# Altium footprint library Custom_Library.PcbLib: 2 footprints
Each footprint in its own frame and in the unit in brackets; x right, y up, seen from the top. Pads: shape width x height; smd on the part's side, far side on the other; paste and mask are expansions set on the pad; w line width, h text height; cw(c..) or ccw(c..) is an arc to the next point about the centre after c.
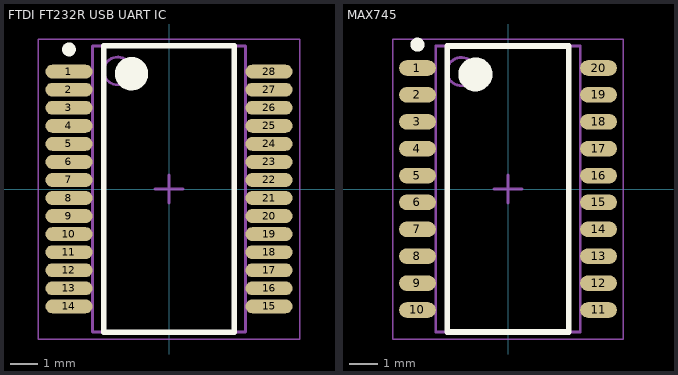
[diagram p0: the footprints below, top view; thin cyan lines are the x and y axes]

## FTDI FT232R USB UART IC [mm] "The FT232R is a USB to serial UART  interface"
height 2
pads (28):
  oval 1.7x0.5 smd: 1(-3.6,4.225) 2(-3.6,3.575) 3(-3.6,2.925) 4(-3.6,2.275) 5(-3.6,1.625) 6(-3.6,0.975) 7(-3.6,0.325) 8(-3.6,-0.325) 9(-3.6,-0.975) 10(-3.6,-1.625) 11(-3.6,-2.275) 12(-3.6,-2.925) 13(-3.6,-3.575) 14(-3.6,-4.225) 15(3.6,-4.225) 16(3.6,-3.575) 17(3.6,-2.925) 18(3.6,-2.275) 19(3.6,-1.625) 20(3.6,-0.975) 21(3.6,-0.325) 22(3.6,0.325) 23(3.6,0.975) 24(3.6,1.625) 25(3.6,2.275) 26(3.6,2.925) 27(3.6,3.575) 28(3.6,4.225)
Top Overlay:
  circle w0.6: c-1.35,4.15 r0.3
  circle w0.25: c-3.6,5.025 r0.125
  lines w0.2: -2.35,-5.15 2.35,-5.15 2.35,5.15 -2.35,5.15 -2.35,-5.15
Mechanical 13:
  circle w0.1: c-1.85,4.25 r0.5
  lines w0.1: -2.75,-5.15 2.75,-5.15 2.75,5.15 -2.75,5.15 -2.75,-5.15
Mechanical 15:
  lines w0.05: -4.7,-5.4 4.7,-5.4 4.7,5.4 -4.7,5.4 -4.7,-5.4
  lines w0.1: -0.5,0 0.5,0 ; 0,-0.5 0,0.5
3D body: height 2, standoff 0.25, extent -2.75,-5.15 2.75,5.15

## MAX745 [mm] "20 pin SSOP Battery managment chip"
height 2
pads (20):
  oval 1.3x0.55 smd: 1(-3.2,4.275) 2(-3.2,3.325) 3(-3.2,2.375) 4(-3.2,1.425) 5(-3.2,0.475) 6(-3.2,-0.475) 7(-3.2,-1.425) 8(-3.2,-2.375) 9(-3.2,-3.325) 10(-3.2,-4.275) 11(3.2,-4.275) 12(3.2,-3.325) 13(3.2,-2.375) 14(3.2,-1.425) 15(3.2,-0.475) 16(3.2,0.475) 17(3.2,1.425) 18(3.2,2.375) 19(3.2,3.325) 20(3.2,4.275)
Top Overlay:
  circle w0.6: c-1.15,4.05 r0.3
  circle w0.25: c-3.2,5.1 r0.125
  lines w0.2: -2.15,-5.05 2.15,-5.05 2.15,5.05 -2.15,5.05 -2.15,-5.05
Mechanical 13:
  circle w0.1: c-1.65,4.15 r0.5
  lines w0.1: -2.55,-5.05 2.55,-5.05 2.55,5.05 -2.55,5.05 -2.55,-5.05
Mechanical 15:
  lines w0.05: -4.075,-5.3 4.075,-5.3 4.075,5.3 -4.075,5.3 -4.075,-5.3
  lines w0.1: -0.5,0 0.5,0 ; 0,-0.5 0,0.5
3D body: height 2, standoff 0.4, extent -2.159,-5.05 2.159,5.05